# Altium schematic symbol library First_Library_HNIT_SHEMATIC.SchLib: 7 symbols
Pins are listed as number, name and electrical type; pins without a type are passive.

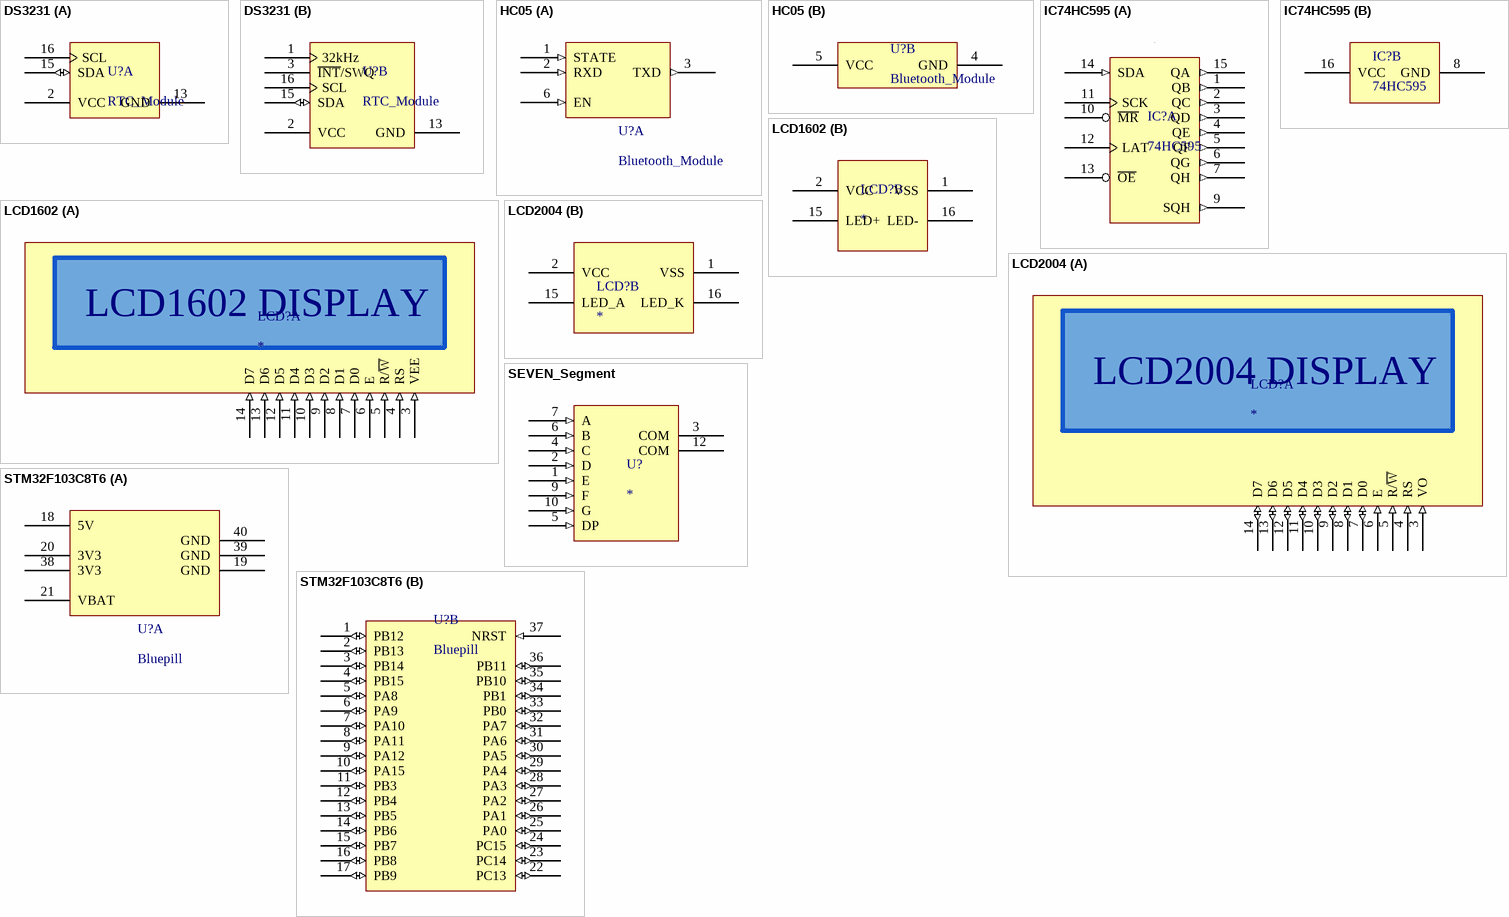
[diagram p0: symbols DS3231 to STM32F103C8T6]

## DS3231
designator U?, comment RTC_Module
DS3231 Real Time Clock (RTC) Clock Timing Raspberry Pi Pico Platform Evaluation Expansion Board; Manufacturer: Seeed Technology Co., Ltd; Type: Clock Timing; Function: Real Time Clock (RTC); ComponentLink1Description: Datasheet; ComponentLink1URL: https://www.analog.com/media/en/technical-documentation/data-sheets/DS3231.pdf
footprint DS3231
part A pins: 2 VCC, 13 GND, 15 SDA (io), 16 SCL
part B pins: 1 32kHz, 2 VCC (power), 3 ~{INT}/SWQ, 13 GND (power), 15 SDA (io), 16 SCL

## HC05
designator U?, comment Bluetooth_Module
HC05 Bluetooth RF Grove Platform Evaluation Expansion Board; Manufacturer: Seeed Technology Co., Ltd; Utilized IC / Part: HC-05; Type: RF; Function: Bluetooth; ComponentLink1Description: Datasheet; ComponentLink1URL: https://raw.githubusercontent.com/SeeedDocument/Grove-Serial_Bluetooth_v3.0/master/res/Bluetooth_module.pdf
footprint HC05_Bluetooth_Module
part A pins: 1 STATE (in), 2 RXD (in), 3 TXD (out), 6 EN (in)
part B pins: 4 GND, 5 VCC

## IC74HC595
designator IC?, comment 74HC595
The 74HC595 is an high speed CMOS device.; Manufucture: Texas Instrucment; Logic Type: Shift Register; Output Type: Tri-State; Function: Serial to Parallel; Voltage - Supply: 2V ~ 6V; Series: 74HC; Package: Tube; Operating Temperature: -55°C ~ 125°C; Mounting Type: Througt Hole; Package / Case: 16-DIP (0.300", 7.62mm); ComponentLink1Description: Datasheets; ComponentLink1URL: https://www.ti.com/general/docs/suppproductinfo.tsp?distId=10&gotoUrl=https%3A%2F%2Fwww.ti.com%2Flit%2Fgpn%2Fcd74hc595
footprint IC_74HC595
part A pins: 1 QB (out), 2 QC (out), 3 QD (out), 4 QE (out), 5 QF (out), 6 QG (out), 7 QH (out), 9 SQH (out), 10 ~{MR}, 11 SCK, 12 LAT, 13 ~{OE}, 14 SDA (in), 15 QA (out)
part B pins: 8 GND, 16 VCC

## LCD1602
designator LCD?
DISPLAY CONSTRUCTION: 16 Characters * 2 Lines; DISPLAY MODE: TN/STN; DISPLAY TYPE: Positive Transflective; BACKLIGHT: LED; VIEWING DIRECTION: 6 o'clock; DRIVING VOLTAGE: Single power; DRIVING METHOD: 1/16 duty,1/5 bias; NUMBER OF DATA LINE: 8-bit parallel; CONNECTOR: Pin / ZEBRA; DRIVER IC: KS0066 (compatible with HD44780); INTERFACE: Parallel; BACKLIGHT COLOR: GREEN/BLUE; CHARACTER COLOR: White; CHARACTER SET: ASCII; OPERATING TEMPERATURE: Indoor; TYPE: COB (Chip On Board); DIMENSION: 80 * 36 * 12.5; ComponentLink1Description: Hshop (Green Backlight); ComponentLink1URL: https://hshop.vn/products/lcd-text-lcd1602-xanh-lo; ComponentLink2Description: Hshop (Blue Backlight); ComponentLink2URL: https://hshop.vn/products/lcd-text-lcd1602-xanh-duong; ComponentLink3Description: Datasheet; ComponentLink3URL: https://www.waveshare.com/datasheet/LCD_en_PDF/LCD1602.pdf
footprint LCD1602
part A pins: 3 VEE (in), 4 RS (in), 5 R/~{W} (in), 6 E (in), 7 D0 (in), 8 D1 (in), 9 D2 (in), 10 D3 (in), 11 D4 (in), 12 D5 (in), 13 D6 (in), 14 D7 (in)
part B pins: 1 VSS, 2 VCC, 15 LED+, 16 LED-
part A text: LCD1602 DISPLAY

## LCD2004
designator LCD?
DISPLAY CONSTRUCTION: 20 Characters * 4 Lines; DISPLAY MODE: TN/STN; DISPLAY TYPE: Positive Transflective; BACKLIGHT: LED(B/5.0V); VIEWING DIRECTION: 6 o'clock; DRIVING VOLTAGE: Single power; DRIVING METHOD: 1/16 duty,1/5 bias; NUMBER OF DATA LINE: 8-bit parallel; CONNECTOR: Pin / ZEBRA; DRIVER IC: KS0066 (compatible with HD44780); INTERFACE: Parallel; BACKLIGHT COLOR: GREEN/BLUE; CHARACTER SET: ASCII; OPERATING TEMPERATURE: Indoor; TYPE: COB (Chip On Board); DIMENSION: 98 * 60 * 13.5; ComponentLink1Description: Hshop (Blue Backlight); ComponentLink1URL: https://hshop.vn/products/lcd-text-lcd2004-xanh-duong; ComponentLink2Description: Hshop (Green Backlight); ComponentLink2URL: https://hshop.vn/products/lcd-text-lcd2004-xanh-lo; ComponentLink3Description: Datasheet; ComponentLink3URL: https://uk.beta-layout.com/download/rk/RK-10290_410.pdf
footprint LCD2004
part A pins: 3 VO (in), 4 RS (in), 5 R/~{W} (in), 6 E (in), 7 D0 (io), 8 D1 (io), 9 D2 (io), 10 D3 (io), 11 D4 (io), 12 D5 (io), 13 D6 (io), 14 D7 (io)
part B pins: 1 VSS, 2 VCC, 15 LED_A, 16 LED_K
part A text: LCD2004 DISPLAY

## SEVEN_Segment
designator U?
WL-T7DS 7 SEGMENTS DISPLAY THT S; Manufacturer: Würth Elektronik; Manufacturer Product Number: 157119V12701; Digit/Alpha Size: 0.39" (9.90mm); Voltage - Forward (Vf) (Typ): 2.2V; Current - Test: 20mA; Series: WL-T7DS; Size / Dimension: 0.512" H x 0.394" W x 0.276" D (13.00mm x 10.00mm x 7.00mm); Color: Red; Package / Case: 10-DIP (0.300", 7.62mm); ComponentLink1Description: Datasheets; ComponentLink1URL: https://www.we-online.com/catalog/datasheet/157119V12701.pdf
footprint SEVEN_Sigment
pins: 1 E (in), 2 D (in), 3 COM (power) "VCC/GND", 4 C (in), 5 DP (in), 6 B (in), 7 A (in), 9 F (in), 10 G (in), 12 COM (power) "VCC/GND"

## STM32F103C8T6
designator U?, comment Bluepill
STM32F103C8T6, mbed-Enabled Development Bluepill STM32F1 ARM® Cortex®-M3 MCU 32-Bit Embedded Evaluation Board; Manufacturer: STMicroelectronics; Core Size: 32-Bit Single-Core; Speed: 72MHz; Connectivity: CANbus, I²C, IrDA, LINbus, SPI, UART/USART, USB; Peripherals: DMA, Motor Control PWM, PDR, POR, PVD, PWM, Temp Sensor, WDT; Number of I/O: 37; Program Memory Size: 64KB (64K x 8); Program Memory Type: FLASH; RAM Size: 20K x 8; Voltage - Supply (Vcc/Vdd): 2V ~ 3.6V; Data Converters: A/D 10x12b; Oscillator Type: Internal; Category: Microcontrollers; Series: STM32F1; Core Processor: ARM® Cortex®-M3; EEPROM Size: -; Operating Temperature: -40°C ~ 85°C (TA); ComponentLink1Description: MPU; ComponentLink1URL: https://www.thegioiic.com/stm32f103c8t6; ComponentLink2Description: Kit Bluepill; ComponentLink2URL: https://hshop.vn/products/kit-ra-chon-stm32f103c8t6; ComponentLink3Description: Datasheet; ComponentLink3URL: https://www.st.com/resource/en/datasheet/cd00161566.pdf
footprint STM32F103C8T6
part A pins: 18 5V, 19 GND, 20 3V3, 21 VBAT, 38 3V3, 39 GND, 40 GND
part B pins: 1 PB12 (io), 2 PB13 (io), 3 PB14 (io), 4 PB15 (io), 5 PA8 (io), 6 PA9 (io), 7 PA10 (io), 8 PA11 (io), 9 PA12 (io), 10 PA15 (io), 11 PB3 (io), 12 PB4 (io), 13 PB5 (io), 14 PB6 (io), 15 PB7 (io), 16 PB8 (io), 17 PB9 (io), 22 PC13 (io), 23 PC14 (io), 24 PC15 (io), 25 PA0 (io), 26 PA1 (io), 27 PA2 (io), 28 PA3 (io), 29 PA4 (io), 30 PA5 (io), 31 PA6 (io), 32 PA7 (io), 33 PB0 (io), 34 PB1 (io), 35 PB10 (io), 36 PB11 (io), 37 NRST (in)